# Altium footprint library BreakoutAdapters.PcbLib: 2 footprints
Each footprint in its own frame and in the unit in brackets; x right, y up, seen from the top. Pads: shape width x height; smd on the part's side, far side on the other; paste and mask are expansions set on the pad; w line width, h text height; cw(c..) or ccw(c..) is an arc to the next point about the centre after c.
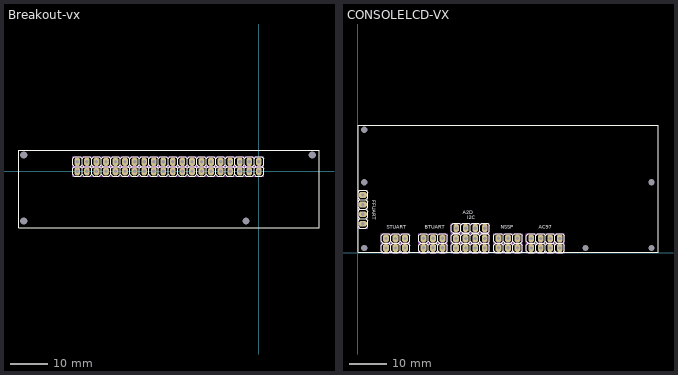
[diagram p0: the footprints below, top view; thin cyan lines are the x and y axes]

## Breakout-vx [mil]
pads (40):
  oct 60x85 hole 35: 1(0,0) 2(0,100) 3(-100,0) 4(-100,100) 5(-200,0) 6(-200,100) 7(-300,0) 8(-300,100) 9(-400,0) 10(-400,100) 11(-500,0) 12(-500,100) 13(-600,0) 14(-600,100) 15(-700,0) 16(-700,100) 17(-800,0) 18(-800,100) 19(-900,0) 20(-900,100) 21(-1000,0) 22(-1000,100) 23(-1100,0) 24(-1100,100) 25(-1200,0) 26(-1200,100) 27(-1300,0) 28(-1300,100) 29(-1400,0) 30(-1400,100) 31(-1500,0) 32(-1500,100) 33(-1600,0) 34(-1600,100) 35(-1700,0) 36(-1700,100) 37(-1800,0) 38(-1800,100) 39(-1900,0) 40(-1900,100)
via 560,170 diameter 0 hole 75
via -135,-520 diameter 0 hole 75
via -2460,-520 diameter 0 hole 75
via -2460,170 diameter 0 hole 75
Top Overlay:
  drawing of 404 lines, arcs and shapes, not listed
Mechanical 1:
  lines w7: -1950,-50 -1950,45 50,45 50,-50 -1950,-50 ; -1950,55 50,55 50,150 -1950,150 -1950,55
3D body: height 432.68, standoff 232.68, extent -2340,-595 -2140,-515
3D body: height 449.8, standoff 250.2, extent -2340,-515 -2140.79,-165
3D body: height 454.64, standoff 279.45, extent -1969.76,-587.17 -1580,-232.83
3D body: height 124.41, standoff -124.41, extent -1912.48,95 -1887.52,104.96
3D body: height 124.41, standoff -124.41, extent -1812.48,95 -1787.52,104.96
3D body: height 124.41, standoff -124.41, extent -1712.48,95 -1687.52,104.96
3D body: height 124.41, standoff -124.41, extent -1612.48,95 -1587.52,104.96
3D body: height 124.41, standoff -124.41, extent -1512.48,95 -1487.52,104.96
3D body: height 124.41, standoff -124.41, extent -1412.48,95 -1387.52,104.96
3D body: height 124.41, standoff -124.41, extent -1312.48,95 -1287.52,104.96
3D body: height 124.41, standoff -124.41, extent -1212.48,95 -1187.52,104.96
3D body: height 124.41, standoff -124.41, extent -1112.48,95 -1087.52,104.96
3D body: height 124.41, standoff -124.41, extent -1012.48,95 -987.52,104.96
3D body: height 124.41, standoff -124.41, extent -912.48,95 -887.52,104.96
3D body: height 124.41, standoff -124.41, extent -812.48,95 -787.52,104.96
3D body: height 124.41, standoff -124.41, extent -712.48,95 -687.52,104.96
3D body: height 124.41, standoff -124.41, extent -612.48,95 -587.52,104.96
3D body: height 124.41, standoff -124.41, extent -512.48,95 -487.52,104.96
3D body: height 124.41, standoff -124.41, extent -412.48,95 -387.52,104.96
3D body: height 124.41, standoff -124.41, extent -312.48,95 -287.52,104.96
3D body: height 124.41, standoff -124.41, extent -212.48,95 -187.52,104.96
3D body: height 124.41, standoff -124.41, extent -112.48,95 -87.52,104.96
3D body: height 124.41, standoff -124.41, extent -12.48,95 12.48,104.96
3D body: height 124.41, standoff -124.41, extent -1912.48,-5 -1887.52,4.96
3D body: height 124.41, standoff -124.41, extent -1812.48,-5 -1787.52,4.96
3D body: height 124.41, standoff -124.41, extent -1712.48,-5 -1687.52,4.96
3D body: height 124.41, standoff -124.41, extent -1612.48,-5 -1587.52,4.96
3D body: height 124.41, standoff -124.41, extent -1512.48,-5 -1487.52,4.96
3D body: height 124.41, standoff -124.41, extent -1412.48,-5 -1387.52,4.96
3D body: height 124.41, standoff -124.41, extent -1312.48,-5 -1287.52,4.96
3D body: height 124.41, standoff -124.41, extent -1212.48,-5 -1187.52,4.96
3D body: height 124.41, standoff -124.41, extent -1112.48,-5 -1087.52,4.96
3D body: height 124.41, standoff -124.41, extent -1012.48,-5 -987.52,4.96
3D body: height 124.41, standoff -124.41, extent -912.48,-5 -887.52,4.96
3D body: height 124.41, standoff -124.41, extent -812.48,-5 -787.52,4.96
3D body: height 124.41, standoff -124.41, extent -712.48,-5 -687.52,4.96
3D body: height 124.41, standoff -124.41, extent -612.48,-5 -587.52,4.96
3D body: height 124.41, standoff -124.41, extent -512.48,-5 -487.52,4.96
3D body: height 124.41, standoff -124.41, extent -412.48,-5 -387.52,4.96
3D body: height 124.41, standoff -124.41, extent -312.48,-5 -287.52,4.96
3D body: height 124.41, standoff -124.41, extent -212.48,-5 -187.52,4.96
3D body: height 124.41, standoff -124.41, extent -112.48,-5 -87.52,4.96
3D body: height 124.41, standoff -124.41, extent -12.48,-5 12.48,4.96
3D body: height 124.41, standoff -124.41, extent -12.48,-5 12.48,4.96
3D body: height 332.68, standoff 0, extent -1949.98,55.02 49.98,149.98
3D body: height 332.68, standoff 0, extent -1949.98,-49.98 49.98,44.98
3D body: height 432, standoff 332.68, extent -950.02,-50.02 -849.98,50.02
3D body: height 432, standoff 332.68, extent -850.02,-50.02 -749.98,50.02
3D body: height 432, standoff 332.68, extent -750.02,-50.02 -649.98,50.02
3D body: height 432, standoff 332.68, extent -650.02,-50.02 -549.98,50.02
3D body: height 432, standoff 332.68, extent -550.02,-50.02 -449.98,50.02
3D body: height 432, standoff 332.68, extent -450.02,-50.02 -349.98,50.02
3D body: height 432, standoff 332.68, extent -350.02,-50.02 -249.98,50.02
3D body: height 432, standoff 332.68, extent -250.02,-50.02 -149.98,50.02
3D body: height 432, standoff 332.68, extent -150.02,-50.02 -49.98,50.02
3D body: height 432, standoff 332.68, extent -50.02,-50.02 50.02,50.02
3D body: height 432, standoff 332.68, extent -950.02,49.98 -849.98,150.02
3D body: height 432, standoff 332.68, extent -850.02,49.98 -749.98,150.02
3D body: height 432, standoff 332.68, extent -750.02,49.98 -649.98,150.02
3D body: height 432, standoff 332.68, extent -650.02,49.98 -549.98,150.02
3D body: height 432, standoff 332.68, extent -550.02,49.98 -449.98,150.02
3D body: height 432, standoff 332.68, extent -450.02,49.98 -349.98,150.02
3D body: height 432, standoff 332.68, extent -350.02,49.98 -249.98,150.02
3D body: height 432, standoff 332.68, extent -250.02,49.98 -149.98,150.02
3D body: height 432, standoff 332.68, extent -150.02,49.98 -49.98,150.02
3D body: height 432, standoff 332.68, extent -50.02,49.98 50.02,150.02
3D body: height 432, standoff 332.68, extent -1950.02,-50.02 -1849.98,50.02
3D body: height 432, standoff 332.68, extent -1850.02,-50.02 -1749.98,50.02
3D body: height 432, standoff 332.68, extent -1750.02,-50.02 -1649.98,50.02
3D body: height 432, standoff 332.68, extent -1650.02,-50.02 -1549.98,50.02
3D body: height 432, standoff 332.68, extent -1550.02,-50.02 -1449.98,50.02
3D body: height 432, standoff 332.68, extent -1450.02,-50.02 -1349.98,50.02
3D body: height 432, standoff 332.68, extent -1350.02,-50.02 -1249.98,50.02
3D body: height 432, standoff 332.68, extent -1250.02,-50.02 -1149.98,50.02
3D body: height 432, standoff 332.68, extent -1150.02,-50.02 -1049.98,50.02
3D body: height 432, standoff 332.68, extent -1050.02,-50.02 -949.98,50.02
3D body: height 432, standoff 332.68, extent -1950.02,49.98 -1849.98,150.02
3D body: height 432, standoff 332.68, extent -1850.02,49.98 -1749.98,150.02
3D body: height 432, standoff 332.68, extent -1750.02,49.98 -1649.98,150.02
3D body: height 432, standoff 332.68, extent -1650.02,49.98 -1549.98,150.02
3D body: height 432, standoff 332.68, extent -1550.02,49.98 -1449.98,150.02
3D body: height 432, standoff 332.68, extent -1450.02,49.98 -1349.98,150.02
3D body: height 432, standoff 332.68, extent -1350.02,49.98 -1249.98,150.02
3D body: height 432, standoff 332.68, extent -1250.02,49.98 -1149.98,150.02
3D body: height 432, standoff 332.68, extent -1150.02,49.98 -1049.98,150.02
3D body: height 432, standoff 332.68, extent -1050.02,49.98 -949.98,150.02
3D body: height 472.68, standoff 432.68, extent -2513.5,-593.5 633.5,223.5

## CONSOLELCD-VX [mil]
pads (48):
  round 0 hole 64.96 unplated: 2(64.96,49.21) 3(2390.75,49.21) 4(3083.66,48.23) 5(3083.66,739.17) ""(64.96,738.19) ""(64.96,1289.37)
  oct 60x85 hole 35: "A2D 1"(1331.1,255.91) "A2D 2"(1231.1,255.91) "A2D 3"(1131.1,255.91) "A2D 4"(1031.1,255.91) "AC97 1"(1818.5,148.43) "AC97 2"(1818.5,48.43) "AC97 3"(1918.5,148.43) "AC97 4"(1918.5,48.43) "AC97 5"(2018.5,148.43) "AC97 6"(2018.5,48.43) "AC97 7"(2118.5,148.43) "AC97 8"(2118.5,48.43) "BTUART 1"(688.39,149.41) "BTUART 2"(688.39,49.41) "BTUART 3"(788.39,149.41) "BTUART 4"(788.39,49.41) "BTUART 5"(888.39,149.41) "BTUART 6"(888.39,49.41) "I2C 1"(1030.12,147.44) "I2C 2"(1030.12,47.44) "I2C 3"(1130.12,147.44) "I2C 4"(1130.12,47.44) "I2C 5"(1230.12,147.44) "I2C 6"(1230.12,47.44) "I2C 7"(1330.12,147.44) "I2C 8"(1330.12,47.44) "NSSP 1"(1474.8,149.41) "NSSP 2"(1474.8,49.41) "NSSP 3"(1574.8,149.41) "NSSP 4"(1574.8,49.41) "NSSP 5"(1674.8,149.41) "NSSP 6"(1674.8,49.41) "STUART 1"(293.7,148.43) "STUART 2"(293.7,48.43) "STUART 3"(393.7,148.43) "STUART 4"(393.7,48.43) "STUART 5"(493.7,148.43) "STUART 6"(493.7,48.43)
  oct 85x60 hole 35: "FFUART 1"(50.2,303.74) "FFUART 2"(50.2,403.74) "FFUART 3"(50.2,503.74) "FFUART 4"(50.2,603.74)
Top Overlay:
  drawing of 444 lines, arcs and shapes, not listed
  text "FFUART" at 150,550 h40
  text "STUART" at 300,250 h40
  text "BTUART" at 700,250 h40
  text "A2D" at 1100,400 h40
  text "I2C" at 1150,350 h40
  text "NSSP" at 1500,250 h40
  text "AC97" at 1900,250 h40
Mechanical 1:
  lines w7: 5.2,253.74 5.2,653.74 100.2,653.74 100.2,253.74 5.2,253.74 ; 243.7,-1.57 243.7,93.43 543.7,93.43 543.7,-1.57 243.7,-1.57 ; 243.7,103.43 543.7,103.43 543.7,198.43 243.7,198.43 243.7,103.43 ; 638.39,-0.59 638.39,94.41 938.39,94.41 938.39,-0.59 638.39,-0.59 ; 638.39,104.41 938.39,104.41 938.39,199.41 638.39,199.41 638.39,104.41 ; 980.12,-2.56 1380.12,-2.56 1380.12,92.44 980.12,92.44 980.12,-2.56 ; 980.12,102.44 980.12,197.44 1380.12,197.44 1380.12,102.44 980.12,102.44 ; 981.1,205.91 1381.1,205.91 1381.1,300.91 981.1,300.91 981.1,205.91 ; 1424.8,-0.59 1424.8,94.41 1724.8,94.41 1724.8,-0.59 1424.8,-0.59 ; 1424.8,104.41 1724.8,104.41 1724.8,199.41 1424.8,199.41 1424.8,104.41 ; 1768.5,-1.57 2168.5,-1.57 2168.5,93.43 1768.5,93.43 1768.5,-1.57 ; 1768.5,103.43 1768.5,198.43 2168.5,198.43 2168.5,103.43 1768.5,103.43
3D body: height 989.45, standoff 761.1, extent 1245,-1.06 1567.83,491.06
3D body: height 124.41, standoff -124.41, extent 1317.64,142.44 1342.6,152.4
3D body: height 124.41, standoff -124.41, extent 1217.64,142.44 1242.6,152.4
3D body: height 124.41, standoff -124.41, extent 1117.64,142.44 1142.6,152.4
3D body: height 124.41, standoff -124.41, extent 1017.64,142.44 1042.6,152.4
3D body: height 124.41, standoff -124.41, extent 1317.64,42.44 1342.6,52.4
3D body: height 124.41, standoff -124.41, extent 1217.64,42.44 1242.6,52.4
3D body: height 124.41, standoff -124.41, extent 1117.64,42.44 1142.6,52.4
3D body: height 124.41, standoff -124.41, extent 1017.64,42.44 1042.6,52.4
3D body: height 124.41, standoff -124.41, extent 1017.64,42.44 1042.6,52.4
3D body: height 332.68, standoff 0, extent 980.14,102.46 1380.12,197.42
3D body: height 332.68, standoff 0, extent 980.14,-2.54 1380.12,92.42
3D body: height 124.41, standoff -124.41, extent 2106.02,143.43 2130.98,153.39
3D body: height 124.41, standoff -124.41, extent 2006.02,143.43 2030.98,153.39
3D body: height 124.41, standoff -124.41, extent 1906.02,143.43 1930.98,153.39
3D body: height 124.41, standoff -124.41, extent 1806.02,143.43 1830.98,153.39
3D body: height 124.41, standoff -124.41, extent 2106.02,43.43 2130.98,53.39
3D body: height 124.41, standoff -124.41, extent 2006.02,43.43 2030.98,53.39
3D body: height 124.41, standoff -124.41, extent 1906.02,43.43 1930.98,53.39
3D body: height 124.41, standoff -124.41, extent 1806.02,43.43 1830.98,53.39
3D body: height 124.41, standoff -124.41, extent 1806.02,43.43 1830.98,53.39
3D body: height 332.68, standoff 0, extent 1768.52,103.45 2168.5,198.41
3D body: height 332.68, standoff 0, extent 1768.52,-1.55 2168.5,93.41
3D body: height 332.68, standoff 0, extent 243.72,-1.55 543.7,93.41
3D body: height 332.68, standoff 0, extent 243.72,103.45 543.7,198.41
3D body: height 124.41, standoff -124.41, extent 281.22,43.43 306.18,53.39
3D body: height 124.41, standoff -124.41, extent 281.22,43.43 306.18,53.39
3D body: height 124.41, standoff -124.41, extent 381.22,43.43 406.18,53.39
3D body: height 124.41, standoff -124.41, extent 481.22,43.43 506.18,53.39
3D body: height 124.41, standoff -124.41, extent 281.22,143.43 306.18,153.39
3D body: height 124.41, standoff -124.41, extent 381.22,143.43 406.18,153.39
3D body: height 124.41, standoff -124.41, extent 481.22,143.43 506.18,153.39
3D body: height 332.68, standoff 0, extent 638.41,-0.57 938.39,94.39
3D body: height 332.68, standoff 0, extent 638.41,104.43 938.39,199.39
3D body: height 124.41, standoff -124.41, extent 675.91,44.41 700.87,54.37
3D body: height 124.41, standoff -124.41, extent 675.91,44.41 700.87,54.37
3D body: height 124.41, standoff -124.41, extent 775.91,44.41 800.87,54.37
3D body: height 124.41, standoff -124.41, extent 875.91,44.41 900.87,54.37
3D body: height 124.41, standoff -124.41, extent 675.91,144.41 700.87,154.37
3D body: height 124.41, standoff -124.41, extent 775.91,144.41 800.87,154.37
3D body: height 124.41, standoff -124.41, extent 875.91,144.41 900.87,154.37
3D body: height 332.68, standoff 0, extent 1424.82,-0.57 1724.8,94.39
3D body: height 332.68, standoff 0, extent 1424.82,104.43 1724.8,199.39
3D body: height 124.41, standoff -124.41, extent 1462.32,44.41 1487.28,54.37
3D body: height 124.41, standoff -124.41, extent 1462.32,44.41 1487.28,54.37
3D body: height 124.41, standoff -124.41, extent 1562.32,44.41 1587.28,54.37
3D body: height 124.41, standoff -124.41, extent 1662.32,44.41 1687.28,54.37
3D body: height 124.41, standoff -124.41, extent 1462.32,144.41 1487.28,154.37
3D body: height 124.41, standoff -124.41, extent 1562.32,144.41 1587.28,154.37
3D body: height 124.41, standoff -124.41, extent 1662.32,144.41 1687.28,154.37
3D body: height 124.41, standoff -124.41, extent 1318.62,250.91 1343.58,260.87
3D body: height 124.41, standoff -124.41, extent 1218.62,250.91 1243.58,260.87
3D body: height 124.41, standoff -124.41, extent 1118.62,250.91 1143.58,260.87
3D body: height 124.41, standoff -124.41, extent 1018.62,250.91 1043.58,260.87
3D body: height 124.41, standoff -124.41, extent 1018.62,250.91 1043.58,260.87
3D body: height 332.68, standoff 0, extent 981.12,205.93 1381.1,300.89
3D body: height 124.41, standoff -124.41, extent 45.24,591.26 55.2,616.22
3D body: height 124.41, standoff -124.41, extent 45.24,491.26 55.2,516.22
3D body: height 124.41, standoff -124.41, extent 45.24,391.26 55.2,416.22
3D body: height 124.41, standoff -124.41, extent 45.24,291.26 55.2,316.22
3D body: height 124.41, standoff -124.41, extent 45.24,291.26 55.2,316.22
3D body: height 332.68, standoff 0, extent 5.22,253.76 100.18,653.74
3D body: height 432.68, standoff 332.68, extent 2.42,552.85 102.46,652.89
3D body: height 432.68, standoff 332.68, extent 2.42,452.85 102.46,552.89
3D body: height 432.68, standoff 332.68, extent 2.42,352.85 102.46,452.89
3D body: height 432.68, standoff 332.68, extent 2.42,252.85 102.46,352.89
3D body: height 432.68, standoff 332.68, extent 444.96,99.98 545,200.02
3D body: height 432.68, standoff 332.68, extent 344.96,99.98 445,200.02
3D body: height 432.68, standoff 332.68, extent 244.96,99.98 345,200.02
3D body: height 432.68, standoff 332.68, extent 244.96,-0.02 345,100.02
3D body: height 432.68, standoff 332.68, extent 344.96,-0.02 445,100.02
3D body: height 432.68, standoff 332.68, extent 444.96,-0.02 545,100.02
3D body: height 432.68, standoff 332.68, extent 839.96,99.98 940,200.02
3D body: height 432.68, standoff 332.68, extent 739.96,99.98 840,200.02
3D body: height 432.68, standoff 332.68, extent 639.96,99.98 740,200.02
3D body: height 432.68, standoff 332.68, extent 839.96,-0.02 940,100.02
3D body: height 432.68, standoff 332.68, extent 739.96,-0.02 840,100.02
3D body: height 432.68, standoff 332.68, extent 639.96,-0.02 740,100.02
3D body: height 432.68, standoff 332.68, extent 1279.96,204.98 1380,305.02
3D body: height 432.68, standoff 332.68, extent 979.96,204.98 1080,305.02
3D body: height 432.68, standoff 332.68, extent 1079.96,204.98 1180,305.02
3D body: height 432.68, standoff 332.68, extent 1179.96,204.98 1280,305.02
3D body: height 432.68, standoff 332.68, extent 1279.96,104.98 1380,205.02
3D body: height 432.68, standoff 332.68, extent 979.96,104.98 1080,205.02
3D body: height 432.68, standoff 332.68, extent 1079.96,104.98 1180,205.02
3D body: height 432.68, standoff 332.68, extent 1179.96,104.98 1280,205.02
3D body: height 432.68, standoff 332.68, extent 1279.96,-5.02 1380,95.02
3D body: height 432.68, standoff 332.68, extent 979.96,-5.02 1080,95.02
3D body: height 432.68, standoff 332.68, extent 1079.96,-5.02 1180,95.02
3D body: height 432.68, standoff 332.68, extent 1179.96,-5.02 1280,95.02
3D body: height 432.68, standoff 332.68, extent 2069.96,99.98 2170,200.02
3D body: height 432.68, standoff 332.68, extent 1769.96,99.98 1870,200.02
3D body: height 432.68, standoff 332.68, extent 1869.96,99.98 1970,200.02
3D body: height 432.68, standoff 332.68, extent 1969.96,99.98 2070,200.02
3D body: height 432.68, standoff 332.68, extent 2069.96,-0.02 2170,100.02
3D body: height 432.68, standoff 332.68, extent 1769.96,-0.02 1870,100.02
3D body: height 432.68, standoff 332.68, extent 1869.96,-0.02 1970,100.02
3D body: height 432.68, standoff 332.68, extent 1969.96,-0.02 2070,100.02
3D body: height 432.68, standoff 332.68, extent 1424.96,99.98 1525,200.02
3D body: height 432.68, standoff 332.68, extent 1524.96,99.98 1625,200.02
3D body: height 432.68, standoff 332.68, extent 1624.96,99.98 1725,200.02
3D body: height 432.68, standoff 332.68, extent 1424.96,-0.02 1525,100.02
3D body: height 432.68, standoff 332.68, extent 1524.96,-0.02 1625,100.02
3D body: height 432.68, standoff 332.68, extent 1624.96,-0.02 1725,100.02
3D body: height 482.6, standoff 432.6, extent 0,0 3150,1340
3D body: height 832.5, standoff 482.5, extent 100,910.39 498.42,1309.61
3D body: height 805, standoff 770, extent 75,880.44 523.23,1329.56
3D body: height 805, standoff 770, extent 675,880.44 1123.23,1329.56
3D body: height 832.5, standoff 482.5, extent 700,910.39 1098.42,1309.61
3D body: height 805, standoff 770, extent 1245,880.44 1693.23,1329.56
3D body: height 832.5, standoff 482.5, extent 1270,910.39 1668.42,1309.61
3D body: height 640.55, standoff 465.36, extent 2705.12,985 3094.88,1339.33
3D body: height 682.6, standoff 482.6, extent 1900,920 2085,1340
3D body: height 552.6, standoff 482.6, extent 1450,330 2500,550
3D body: height 602.6, standoff 462.6, extent 2755,10 2995,720
3D body: height 642.6, standoff 602.6, extent 0.39,0 3150,787.4
3D body: height 742.6, standoff 642.6, extent 150,120 1200,250
3D body: height 792.6, standoff 742.6, extent 0.39,0 3740,787.4
3D body: height 742.6, standoff 382.6, extent 3200,50 4125,700
3D body: height 852.6, standoff 382.6, extent 4125,50 4225,700
3D body: height 852.6, standoff 752.6, extent 3755,165 4125,550
3D body: height 922.6, standoff 792.6, extent 1650,-0.59 2440,790